# Altium schematic symbol library FerriteBead.SchLib: 1 symbol
Pins are listed as number, name and electrical type; pins without a type are passive.

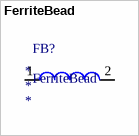
[diagram p0: symbol FerriteBead]

## FerriteBead
designator FB?
Z: *; R: *; Current: *
pins: 1, 2